# Altium integrated library Atmel Microcontroller 32-Bit ARM.IntLib: 116 symbols (part 10 of 10)
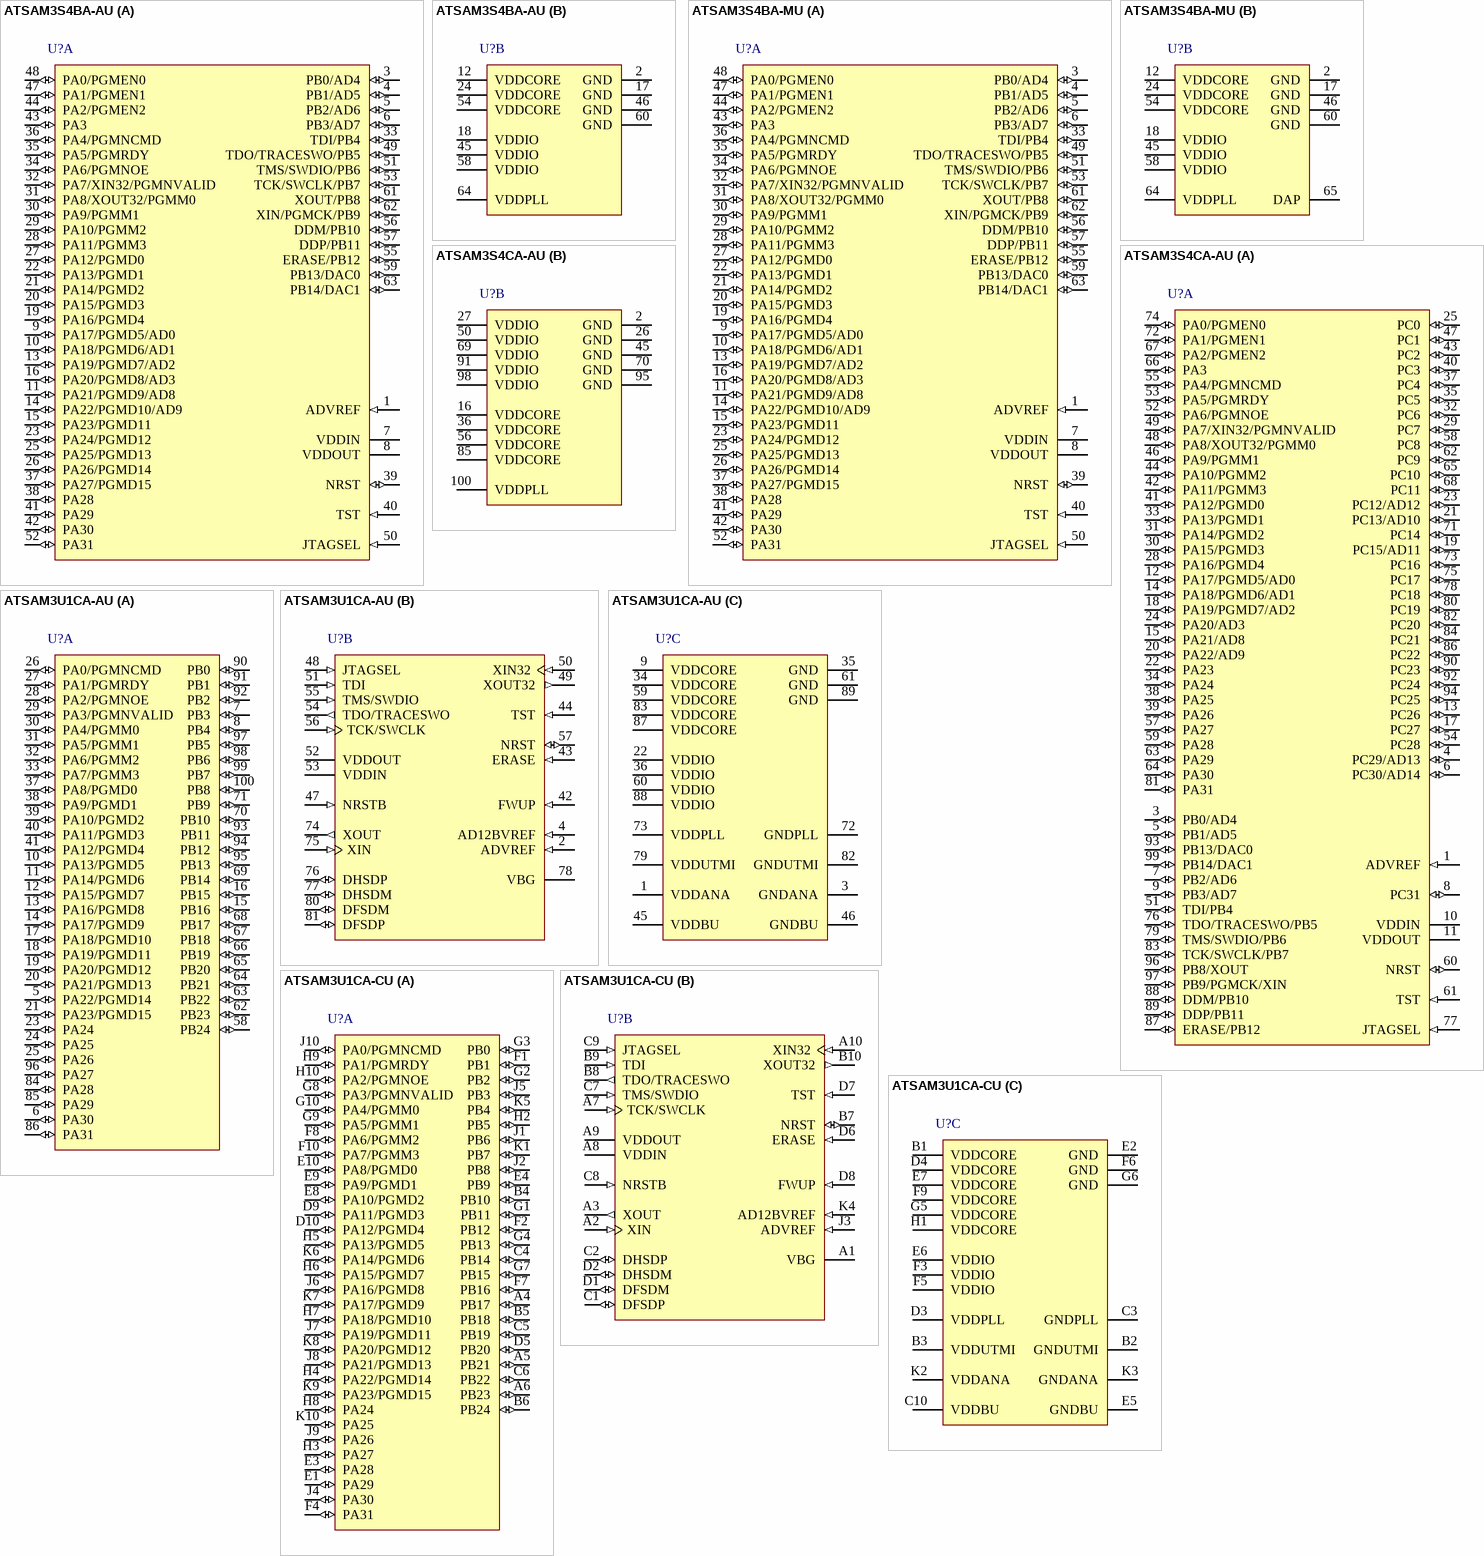
[diagram p61: symbols ATSAM3S4BA-AU to ATSAM3U1CA-CU]

## ATSAM3U1CA-CU
designator U?
AT91 ARM Cortex-M3 32-bit Microcontroller, 64KB Flash, 20KB SRAM, 57 User I/Os, 3USARTs, 100-Pin TFBGA, Industrial Grade (-40°C to 85°C), Pb-Free; Published: 20-Sep-2010; DatasheetVersion: revC, Apr-2010; PackageVersion: 2004; PackageReference: TFBGA100; Publisher: Altium Limited; PackageDescription: 100-Ball Thin Fine Ball Grid Array, 9 x 9 x1.1 mm Body, 0.80 mm Pitch; Supplier 1: Digi-Key; Supplier Part Number 1: ATSAM3U1CA-CU-ND; Supplier 2: Mouser; Supplier Part Number 2: 556-ATSAM3U1CA-CU; ComponentLink1Description: Manufacturer Link; ComponentLink1URL: http://www.atmel.com/products/AT91/default.asp?; ComponentLink2Description: SAM3U Series Datasheet; ComponentLink2URL: http://www.atmel.com/dyn/resources/prod_documents/doc6430.pdf; ComponentLink3Description: SAM3U Series Summary; ComponentLink3URL: http://www.atmel.com/dyn/resources/prod_documents/6430s.pdf; ComponentLink4Description: Atmel.com Home; ComponentLink4URL: http://www.atmel.com
footprint TFBGA100 (BGA, 100-Leads, Body 9x9mm, Pitch 0.8mm)
part A pins: A4 PB17 (io), A5 PB21 (io), A6 PB23 (io), B4 PB10 (io), B5 PB18 (io), B6 PB24 (io), C4 PB14 (io), C5 PB19 (io), C6 PB22 (io), D5 PB20 (io), D9 PA11/PGMD3 (io), D10 PA12/PGMD4 (io), E1 PA29 (io), E3 PA28 (io), E4 PB9 (io), E8 PA10/PGMD2 (io), E9 PA9/PGMD1 (io), E10 PA8/PGMD0 (io), F1 PB1 (io), F2 PB12 (io), F4 PA31 (io), F7 PB16 (io), F8 PA6/PGMM2 (io), F10 PA7/PGMM3 (io), G1 PB11 (io), G2 PB2 (io), G3 PB0 (io), G4 PB13 (io), G7 PB15 (io), G8 PA3/PGMNVALID (io), G9 PA5/PGMM1 (io), G10 PA4/PGMM0 (io), H2 PB5 (io), H3 PA27 (io), H4 PA22/PGMD14 (io), H5 PA13/PGMD5 (io), H6 PA15/PGMD7 (io), H7 PA18/PGMD10 (io), H8 PA24 (io), H9 PA1/PGMRDY (io), H10 PA2/PGMNOE (io), J1 PB6 (io), J2 PB8 (io), J4 PA30 (io), J5 PB3 (io), J6 PA16/PGMD8 (io), J7 PA19/PGMD11 (io), J8 PA21/PGMD13 (io), J9 PA26 (io), J10 PA0/PGMNCMD (io), K1 PB7 (io), K5 PB4 (io), K6 PA14/PGMD6 (io), K7 PA17/PGMD9 (io), K8 PA20/PGMD12 (io), K9 PA23/PGMD15 (io), K10 PA25 (io)
part B pins: A1 VBG, A2 XIN (in), A3 XOUT (out), A7 TCK/SWCLK (in), A8 VDDIN (power), A9 VDDOUT (power), A10 XIN32 (in), B7 NRST (io), B8 TDO/TRACESWO (out), B9 TDI (in), B10 XOUT32 (out), C1 DFSDP (io), C2 DHSDP (io), C7 TMS/SWDIO (in), C8 NRSTB (in), C9 JTAGSEL (in), D1 DFSDM (io), D2 DHSDM (io), D6 ERASE (in), D7 TST (in), D8 FWUP (in), J3 ADVREF (in), K4 AD12BVREF (in)
part C pins: B1 VDDCORE (power), B2 GNDUTMI (power), B3 VDDUTMI (power), C3 GNDPLL (power), C10 VDDBU (power), D3 VDDPLL (power), D4 VDDCORE (power), E2 GND (power), E5 GNDBU (power), E6 VDDIO (power), E7 VDDCORE (power), F3 VDDIO (power), F5 VDDIO (power), F6 GND (power), F9 VDDCORE (power), G5 VDDCORE (power), G6 GND (power), H1 VDDCORE (power), K2 VDDANA (power), K3 GNDANA (power)

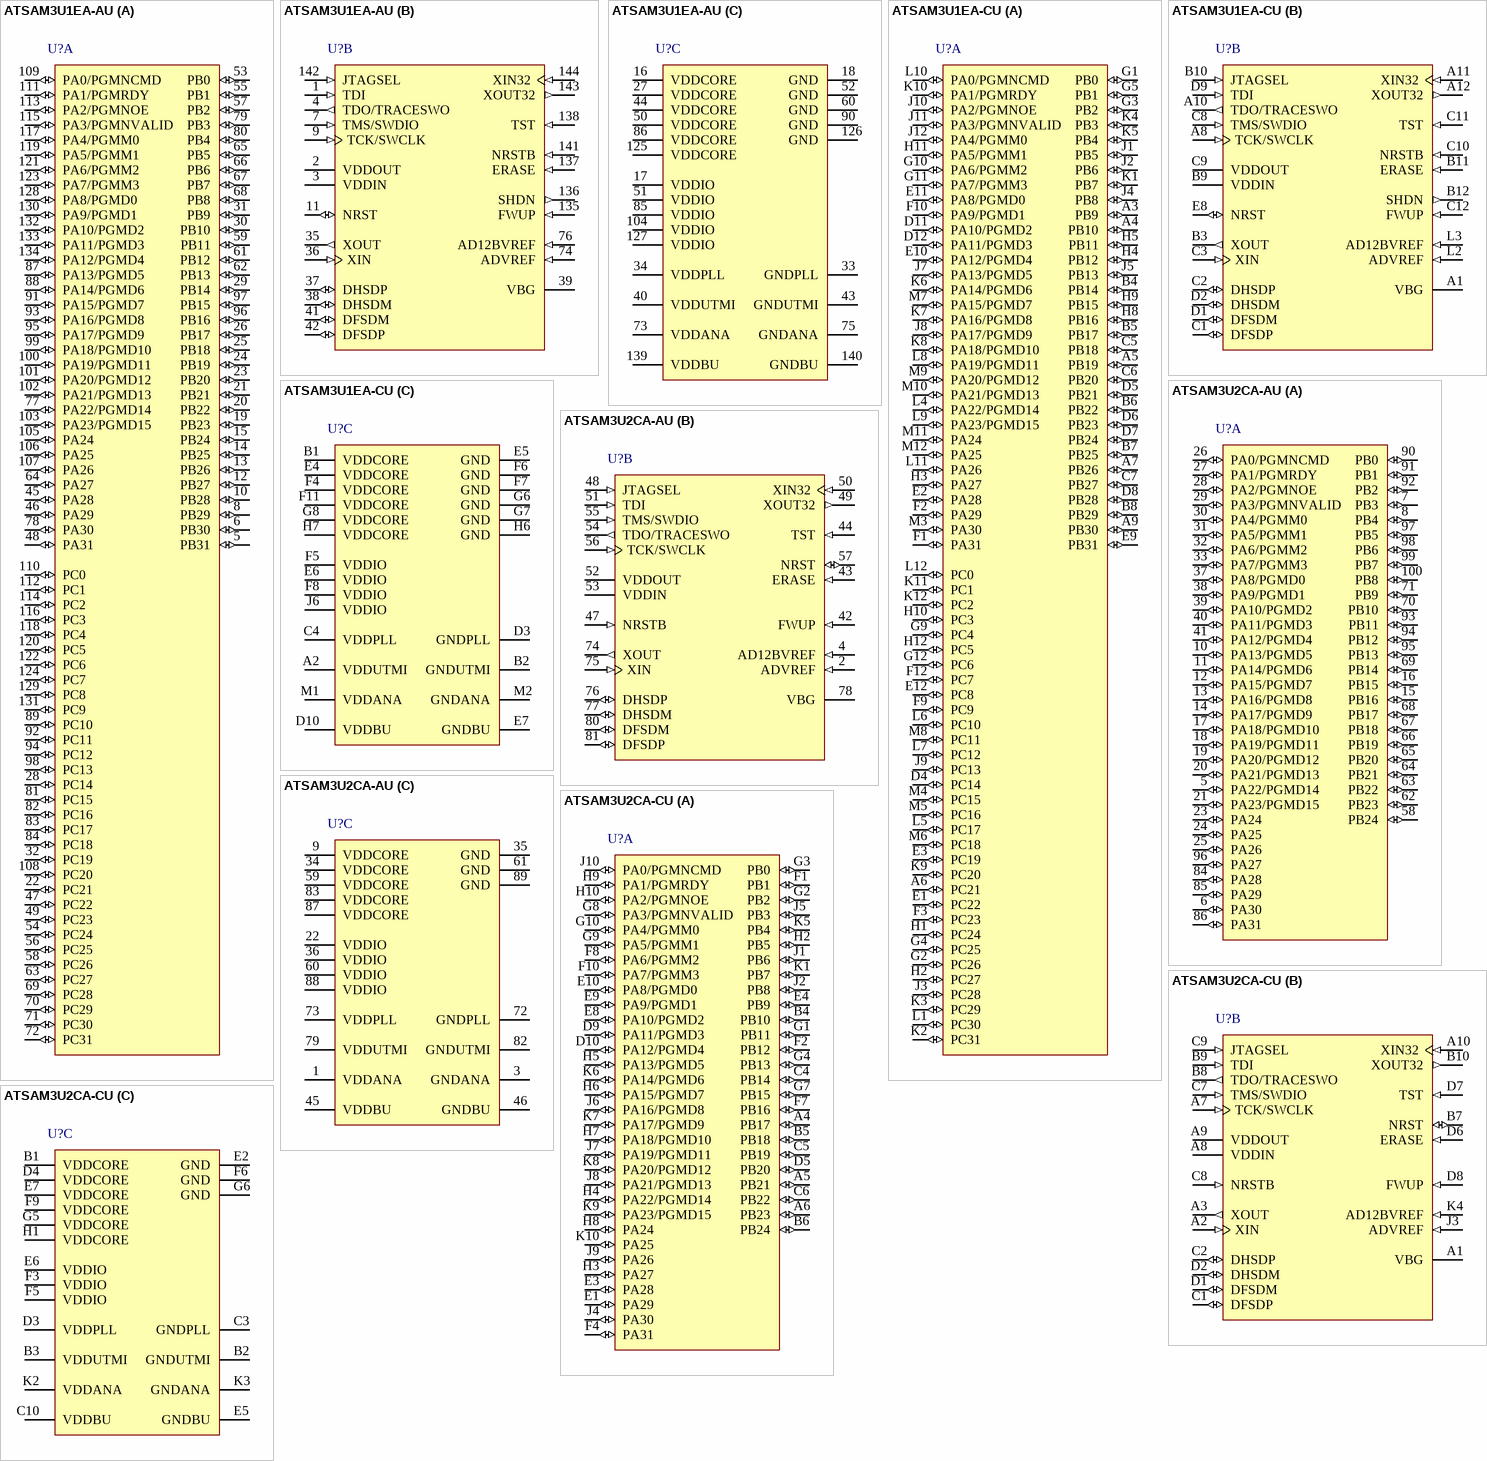
[diagram p50: symbols ATSAM3U1EA-AU to ATSAM3U2CA-CU]

## ATSAM3U1EA-AU
designator U?
AT91 ARM Cortex-M3 32-bit Microcontroller, 64KB Flash, 20KB SRAM, 96 User I/Os, 4USARTs, 144-Pin LQFP, Industrial Grade (-40°C to 85°C), Pb-Free; Published: 20-Sep-2010; DatasheetVersion: revC, Apr-2010; PackageVersion: rev.A, Nov-2001; PackageReference: 144L1; Publisher: Altium Limited; PackageDescription: 144-Pin Thin Quad Flat Pack 0.5 mm Pitch; Supplier 1: Digi-Key; Supplier Part Number 1: ATSAM3U1EA-AU-ND; Supplier 2: Mouser; Supplier Part Number 2: 556-ATSAM3U1EA-AU; Code_JEDEC: MS-026-BFB; ComponentLink1Description: Manufacturer Link; ComponentLink1URL: http://www.atmel.com/products/AT91/default.asp?; ComponentLink2Description: SAM3U Series Datasheet; ComponentLink2URL: http://www.atmel.com/dyn/resources/prod_documents/doc6430.pdf; ComponentLink3Description: SAM3U Series Summary; ComponentLink3URL: http://www.atmel.com/dyn/resources/prod_documents/6430s.pdf; ComponentLink4Description: Atmel.com Home; ComponentLink4URL: http://www.atmel.com
footprint 144L1_N (Thin QFP, 144-Leads, Body 20x20mm, Pitch 0.5mm, IPC Medium Density)
footprint 144L1_L (Thin QFP, 144-Leads, Body 20x20mm, Pitch 0.5mm, IPC High Density)
footprint 144L1_M (Thin QFP, 144-Leads, Body 20x20mm, Pitch 0.5mm, IPC Low Density)
part A pins: 5 PB31 (io), 6 PB30 (io), 8 PB29 (io), 10 PB28 (io), 12 PB27 (io), 13 PB26 (io), 14 PB25 (io), 15 PB24 (io), 19 PB23 (io), 20 PB22 (io), 21 PB21 (io), 22 PC21 (io), 23 PB20 (io), 24 PB19 (io), 25 PB18 (io), 26 PB17 (io), 28 PC14 (io), 29 PB14 (io), 30 PB10 (io), 31 PB9 (io), 32 PC19 (io), 45 PA28 (io), 46 PA29 (io), 47 PC22 (io), 48 PA31 (io), 49 PC23 (io), 53 PB0 (io), 54 PC24 (io), 55 PB1 (io), 56 PC25 (io), 57 PB2 (io), 58 PC26 (io), 59 PB11 (io), 61 PB12 (io), 62 PB13 (io), 63 PC27 (io), 64 PA27 (io), 65 PB5 (io), 66 PB6 (io), 67 PB7 (io), 68 PB8 (io), 69 PC28 (io), 70 PC29 (io), 71 PC30 (io), 72 PC31 (io), 77 PA22/PGMD14 (io), 78 PA30 (io), 79 PB3 (io), 80 PB4 (io), 81 PC15 (io), 82 PC16 (io), 83 PC17 (io), 84 PC18 (io), 87 PA13/PGMD5 (io), 88 PA14/PGMD6 (io), 89 PC10 (io), 91 PA15/PGMD7 (io), 92 PC11 (io), 93 PA16/PGMD8 (io), 94 PC12 (io), 95 PA17/PGMD9 (io), 96 PB16 (io), 97 PB15 (io), 98 PC13 (io), 99 PA18/PGMD10 (io), 100 PA19/PGMD11 (io), 101 PA20/PGMD12 (io), 102 PA21/PGMD13 (io), 103 PA23/PGMD15 (io), 105 PA24 (io), 106 PA25 (io), 107 PA26 (io), 108 PC20 (io), 109 PA0/PGMNCMD (io), 110 PC0 (io), 111 PA1/PGMRDY (io), 112 PC1 (io), 113 PA2/PGMNOE (io), 114 PC2 (io), 115 PA3/PGMNVALID (io), 116 PC3 (io), 117 PA4/PGMM0 (io), 118 PC4 (io), 119 PA5/PGMM1 (io), 120 PC5 (io), 121 PA6/PGMM2 (io), 122 PC6 (io), 123 PA7/PGMM3 (io), 124 PC7 (io), 128 PA8/PGMD0 (io), 129 PC8 (io), 130 PA9/PGMD1 (io), 131 PC9 (io), 132 PA10/PGMD2 (io), 133 PA11/PGMD3 (io), 134 PA12/PGMD4 (io)
part B pins: 1 TDI (in), 2 VDDOUT (power), 3 VDDIN (power), 4 TDO/TRACESWO (out), 7 TMS/SWDIO (in), 9 TCK/SWCLK (in), 11 NRST (io), 35 XOUT (out), 36 XIN (in), 37 DHSDP (io), 38 DHSDM (io), 39 VBG, 41 DFSDM (io), 42 DFSDP (io), 74 ADVREF (in), 76 AD12BVREF (in), 135 FWUP (in), 136 SHDN (out), 137 ERASE (in), 138 TST (in), 141 NRSTB (in), 142 JTAGSEL (in), 143 XOUT32 (out), 144 XIN32 (in)
part C pins: 16 VDDCORE (power), 17 VDDIO (power), 18 GND (power), 27 VDDCORE (power), 33 GNDPLL (power), 34 VDDPLL (power), 40 VDDUTMI (power), 43 GNDUTMI (power), 44 VDDCORE (power), 50 VDDCORE (power), 51 VDDIO (power), 52 GND (power), 60 GND (power), 73 VDDANA (power), 75 GNDANA (power), 85 VDDIO (power), 86 VDDCORE (power), 90 GND (power), 104 VDDIO (power), 125 VDDCORE (power), 126 GND (power), 127 VDDIO (power), 139 VDDBU (power), 140 GNDBU (power)

## ATSAM3U1EA-CU
designator U?
AT91 ARM Cortex-M3 32-bit Microcontroller, 64KB Flash, 20KB SRAM, 96 User I/Os, 4USARTs, 144-Pin LFBGA, Industrial Grade (-40°C to 85°C), Pb-Free; Published: 20-Sep-2010; DatasheetVersion: revC, Apr-2010; PackageVersion: 2008; PackageReference: LFBGA144; Publisher: Altium Limited; PackageDescription: 144-Ball Low Profile Fine Pitch BGA, 10 x 10 x 1.4 mm Body, 0.8 mm Pitch; Supplier 1: Digi-Key; Supplier Part Number 1: ATSAM3U1EA-CU-ND; Supplier 2: Mouser; Supplier Part Number 2: 556-ATSAM3U1EA-CU; Code_JEDEC: MS-026; ComponentLink1Description: Manufacturer Link; ComponentLink1URL: http://www.atmel.com/products/AT91/default.asp?; ComponentLink2Description: SAM3U Series Datasheet; ComponentLink2URL: http://www.atmel.com/dyn/resources/prod_documents/doc6430.pdf; ComponentLink3Description: SAM3U Series Summary; ComponentLink3URL: http://www.atmel.com/dyn/resources/prod_documents/6430s.pdf; ComponentLink4Description: Atmel.com Home; ComponentLink4URL: http://www.atmel.com
footprint LFBGA144 (BGA, 144-Leads, Body 10x10mm, Pitch 0.8mm)
part A pins: A3 PB9 (io), A4 PB10 (io), A5 PB19 (io), A6 PC21 (io), A7 PB26 (io), A9 PB30 (io), B4 PB14 (io), B5 PB17 (io), B6 PB22 (io), B7 PB25 (io), B8 PB29 (io), C5 PB18 (io), C6 PB20 (io), C7 PB27 (io), D4 PC14 (io), D5 PB21 (io), D6 PB23 (io), D7 PB24 (io), D8 PB28 (io), D11 PA10/PGMD2 (io), D12 PA11/PGMD3 (io), E1 PC22 (io), E2 PA28 (io), E3 PC19 (io), E9 PB31 (io), E10 PA12/PGMD4 (io), E11 PA8/PGMD0 (io), E12 PC8 (io), F1 PA31 (io), F2 PA29 (io), F3 PC23 (io), F9 PC9 (io), F10 PA9/PGMD1 (io), F12 PC7 (io), G1 PB0 (io), G2 PC26 (io), G3 PB2 (io), G4 PC25 (io), G5 PB1 (io), G9 PC4 (io), G10 PA6/PGMM2 (io), G11 PA7/PGMM3 (io), G12 PC6 (io), H1 PC24 (io), H2 PC27 (io), H3 PA27 (io), H4 PB12 (io), H5 PB11 (io), H8 PB16 (io), H9 PB15 (io), H10 PC3 (io), H11 PA5/PGMM1 (io), H12 PC5 (io), J1 PB5 (io), J2 PB6 (io), J3 PC28 (io), J4 PB8 (io), J5 PB13 (io), J7 PA13/PGMD5 (io), J8 PA17/PGMD9 (io), J9 PC13 (io), J10 PA2/PGMNOE (io), J11 PA3/PGMNVALID (io), J12 PA4/PGMM0 (io), K1 PB7 (io), K2 PC31 (io), K3 PC29 (io), K4 PB3 (io), K5 PB4 (io), K6 PA14/PGMD6 (io), K7 PA16/PGMD8 (io), K8 PA18/PGMD10 (io), K9 PC20 (io), K10 PA1/PGMRDY (io), K11 PC1 (io), K12 PC2 (io), L1 PC30 (io), L4 PA22/PGMD14 (io), L5 PC17 (io), L6 PC10 (io), L7 PC12 (io), L8 PA19/PGMD11 (io), L9 PA23/PGMD15 (io), L10 PA0/PGMNCMD (io), L11 PA26 (io), L12 PC0 (io), M3 PA30 (io), M4 PC15 (io), M5 PC16 (io), M6 PC18 (io), M7 PA15/PGMD7 (io), M8 PC11 (io), M9 PA20/PGMD12 (io), M10 PA21/PGMD13 (io), M11 PA24 (io), M12 PA25 (io)
part B pins: A1 VBG, A8 TCK/SWCLK (in), A10 TDO/TRACESWO (out), A11 XIN32 (in), A12 XOUT32 (out), B3 XOUT (out), B9 VDDIN (power), B10 JTAGSEL (in), B11 ERASE (in), B12 SHDN (out), C1 DFSDP (io), C2 DHSDP (io), C3 XIN (in), C8 TMS/SWDIO (in), C9 VDDOUT (power), C10 NRSTB (in), C11 TST (in), C12 FWUP (in), D1 DFSDM (io), D2 DHSDM (io), D9 TDI (in), E8 NRST (io), L2 ADVREF (in), L3 AD12BVREF (in)
part C pins: A2 VDDUTMI (power), B1 VDDCORE (power), B2 GNDUTMI (power), C4 VDDPLL (power), D3 GNDPLL (power), D10 VDDBU (power), E4 VDDCORE (power), E5 GND (power), E6 VDDIO (power), E7 GNDBU (power), F4 VDDCORE (power), F5 VDDIO (power), F6 GND (power), F7 GND (power), F8 VDDIO (power), F11 VDDCORE (power), G6 GND (power), G7 GND (power), G8 VDDCORE (power), H6 GND (power), H7 VDDCORE (power), J6 VDDIO (power), M1 VDDANA (power), M2 GNDANA (power)

## ATSAM3U2CA-AU
designator U?
AT91 ARM Cortex-M3 32-bit Microcontroller, 128KB Flash, 36KB SRAM, 57 User I/Os, 3USARTs, 100-Pin LQFP, Industrial Grade (-40°C to 85°C), Pb-Free; Published: 20-Sep-2010; DatasheetVersion: revC, Apr-2010; PackageVersion: Apr-2006; PackageReference: LQFP100; Publisher: Altium Limited; PackageDescription: 100-Pin Thin Quad Flat Pack 0.5 mm Pitch; Supplier 1: Digi-Key; Supplier Part Number 1: ATSAM3U2CA-AU-ND; Supplier 2: Mouser; Supplier Part Number 2: 556-ATSAM3U2CA-AU; Code_JEDEC: MS-026-BED; ComponentLink1Description: Manufacturer Link; ComponentLink1URL: http://www.atmel.com/products/AT91/default.asp?; ComponentLink2Description: SAM3U Series Datasheet; ComponentLink2URL: http://www.atmel.com/dyn/resources/prod_documents/doc6430.pdf; ComponentLink3Description: SAM3U Series Summary; ComponentLink3URL: http://www.atmel.com/dyn/resources/prod_documents/6430s.pdf; ComponentLink4Description: Atmel.com Home; ComponentLink4URL: http://www.atmel.com
footprint LQFP100_N (Thin QFP, 100-Leads, Body 14x14mm, Pitch 0.5mm, IPC Medium Density)
footprint LQFP100_L (Thin QFP, 100-Leads, Body 14x14mm, Pitch 0.5mm, IPC High Density)
footprint LQFP100_M (Thin QFP, 100-Leads, Body 14x14mm, Pitch 0.5mm, IPC Low Density)
part A pins: 5 PA22/PGMD14 (io), 6 PA30 (io), 7 PB3 (io), 8 PB4 (io), 10 PA13/PGMD5 (io), 11 PA14/PGMD6 (io), 12 PA15/PGMD7 (io), 13 PA16/PGMD8 (io), 14 PA17/PGMD9 (io), 15 PB16 (io), 16 PB15 (io), 17 PA18/PGMD10 (io), 18 PA19/PGMD11 (io), 19 PA20/PGMD12 (io), 20 PA21/PGMD13 (io), 21 PA23/PGMD15 (io), 23 PA24 (io), 24 PA25 (io), 25 PA26 (io), 26 PA0/PGMNCMD (io), 27 PA1/PGMRDY (io), 28 PA2/PGMNOE (io), 29 PA3/PGMNVALID (io), 30 PA4/PGMM0 (io), 31 PA5/PGMM1 (io), 32 PA6/PGMM2 (io), 33 PA7/PGMM3 (io), 37 PA8/PGMD0 (io), 38 PA9/PGMD1 (io), 39 PA10/PGMD2 (io), 40 PA11/PGMD3 (io), 41 PA12/PGMD4 (io), 58 PB24 (io), 62 PB23 (io), 63 PB22 (io), 64 PB21 (io), 65 PB20 (io), 66 PB19 (io), 67 PB18 (io), 68 PB17 (io), 69 PB14 (io), 70 PB10 (io), 71 PB9 (io), 84 PA28 (io), 85 PA29 (io), 86 PA31 (io), 90 PB0 (io), 91 PB1 (io), 92 PB2 (io), 93 PB11 (io), 94 PB12 (io), 95 PB13 (io), 96 PA27 (io), 97 PB5 (io), 98 PB6 (io), 99 PB7 (io), 100 PB8 (io)
part B pins: 2 ADVREF (in), 4 AD12BVREF (in), 42 FWUP (in), 43 ERASE (in), 44 TST (in), 47 NRSTB (in), 48 JTAGSEL (in), 49 XOUT32 (out), 50 XIN32 (in), 51 TDI (in), 52 VDDOUT (power), 53 VDDIN (power), 54 TDO/TRACESWO (out), 55 TMS/SWDIO (in), 56 TCK/SWCLK (in), 57 NRST (io), 74 XOUT (out), 75 XIN (in), 76 DHSDP (io), 77 DHSDM (io), 78 VBG, 80 DFSDM (io), 81 DFSDP (io)
part C pins: 1 VDDANA (power), 3 GNDANA (power), 9 VDDCORE (power), 22 VDDIO (power), 34 VDDCORE (power), 35 GND (power), 36 VDDIO (power), 45 VDDBU (power), 46 GNDBU (power), 59 VDDCORE (power), 60 VDDIO (power), 61 GND (power), 72 GNDPLL (power), 73 VDDPLL (power), 79 VDDUTMI (power), 82 GNDUTMI (power), 83 VDDCORE (power), 87 VDDCORE (power), 88 VDDIO (power), 89 GND (power)

## ATSAM3U2CA-CU
designator U?
AT91 ARM Cortex-M3 32-bit Microcontroller, 128KB Flash, 36KB SRAM, 57 User I/Os, 3USARTs, 100-Pin TFBGA, Industrial Grade (-40°C to 85°C), Pb-Free; Published: 20-Sep-2010; DatasheetVersion: revC, Apr-2010; PackageVersion: 2004; PackageReference: TFBGA100; Publisher: Altium Limited; PackageDescription: 100-Ball Thin Fine Ball Grid Array, 9 x 9 x1.1 mm Body, 0.80 mm Pitch; Supplier 1: Digi-Key; Supplier Part Number 1: ATSAM3U2CA-CU-ND; Supplier 2: Mouser; Supplier Part Number 2: 556-ATSAM3U2CA-CU; ComponentLink1Description: Manufacturer Link; ComponentLink1URL: http://www.atmel.com/products/AT91/default.asp?; ComponentLink2Description: SAM3U Series Datasheet; ComponentLink2URL: http://www.atmel.com/dyn/resources/prod_documents/doc6430.pdf; ComponentLink3Description: SAM3U Series Summary; ComponentLink3URL: http://www.atmel.com/dyn/resources/prod_documents/6430s.pdf; ComponentLink4Description: Atmel.com Home; ComponentLink4URL: http://www.atmel.com
footprint TFBGA100 (BGA, 100-Leads, Body 9x9mm, Pitch 0.8mm)
part A pins: A4 PB17 (io), A5 PB21 (io), A6 PB23 (io), B4 PB10 (io), B5 PB18 (io), B6 PB24 (io), C4 PB14 (io), C5 PB19 (io), C6 PB22 (io), D5 PB20 (io), D9 PA11/PGMD3 (io), D10 PA12/PGMD4 (io), E1 PA29 (io), E3 PA28 (io), E4 PB9 (io), E8 PA10/PGMD2 (io), E9 PA9/PGMD1 (io), E10 PA8/PGMD0 (io), F1 PB1 (io), F2 PB12 (io), F4 PA31 (io), F7 PB16 (io), F8 PA6/PGMM2 (io), F10 PA7/PGMM3 (io), G1 PB11 (io), G2 PB2 (io), G3 PB0 (io), G4 PB13 (io), G7 PB15 (io), G8 PA3/PGMNVALID (io), G9 PA5/PGMM1 (io), G10 PA4/PGMM0 (io), H2 PB5 (io), H3 PA27 (io), H4 PA22/PGMD14 (io), H5 PA13/PGMD5 (io), H6 PA15/PGMD7 (io), H7 PA18/PGMD10 (io), H8 PA24 (io), H9 PA1/PGMRDY (io), H10 PA2/PGMNOE (io), J1 PB6 (io), J2 PB8 (io), J4 PA30 (io), J5 PB3 (io), J6 PA16/PGMD8 (io), J7 PA19/PGMD11 (io), J8 PA21/PGMD13 (io), J9 PA26 (io), J10 PA0/PGMNCMD (io), K1 PB7 (io), K5 PB4 (io), K6 PA14/PGMD6 (io), K7 PA17/PGMD9 (io), K8 PA20/PGMD12 (io), K9 PA23/PGMD15 (io), K10 PA25 (io)
part B pins: A1 VBG, A2 XIN (in), A3 XOUT (out), A7 TCK/SWCLK (in), A8 VDDIN (power), A9 VDDOUT (power), A10 XIN32 (in), B7 NRST (io), B8 TDO/TRACESWO (out), B9 TDI (in), B10 XOUT32 (out), C1 DFSDP (io), C2 DHSDP (io), C7 TMS/SWDIO (in), C8 NRSTB (in), C9 JTAGSEL (in), D1 DFSDM (io), D2 DHSDM (io), D6 ERASE (in), D7 TST (in), D8 FWUP (in), J3 ADVREF (in), K4 AD12BVREF (in)
part C pins: B1 VDDCORE (power), B2 GNDUTMI (power), B3 VDDUTMI (power), C3 GNDPLL (power), C10 VDDBU (power), D3 VDDPLL (power), D4 VDDCORE (power), E2 GND (power), E5 GNDBU (power), E6 VDDIO (power), E7 VDDCORE (power), F3 VDDIO (power), F5 VDDIO (power), F6 GND (power), F9 VDDCORE (power), G5 VDDCORE (power), G6 GND (power), H1 VDDCORE (power), K2 VDDANA (power), K3 GNDANA (power)

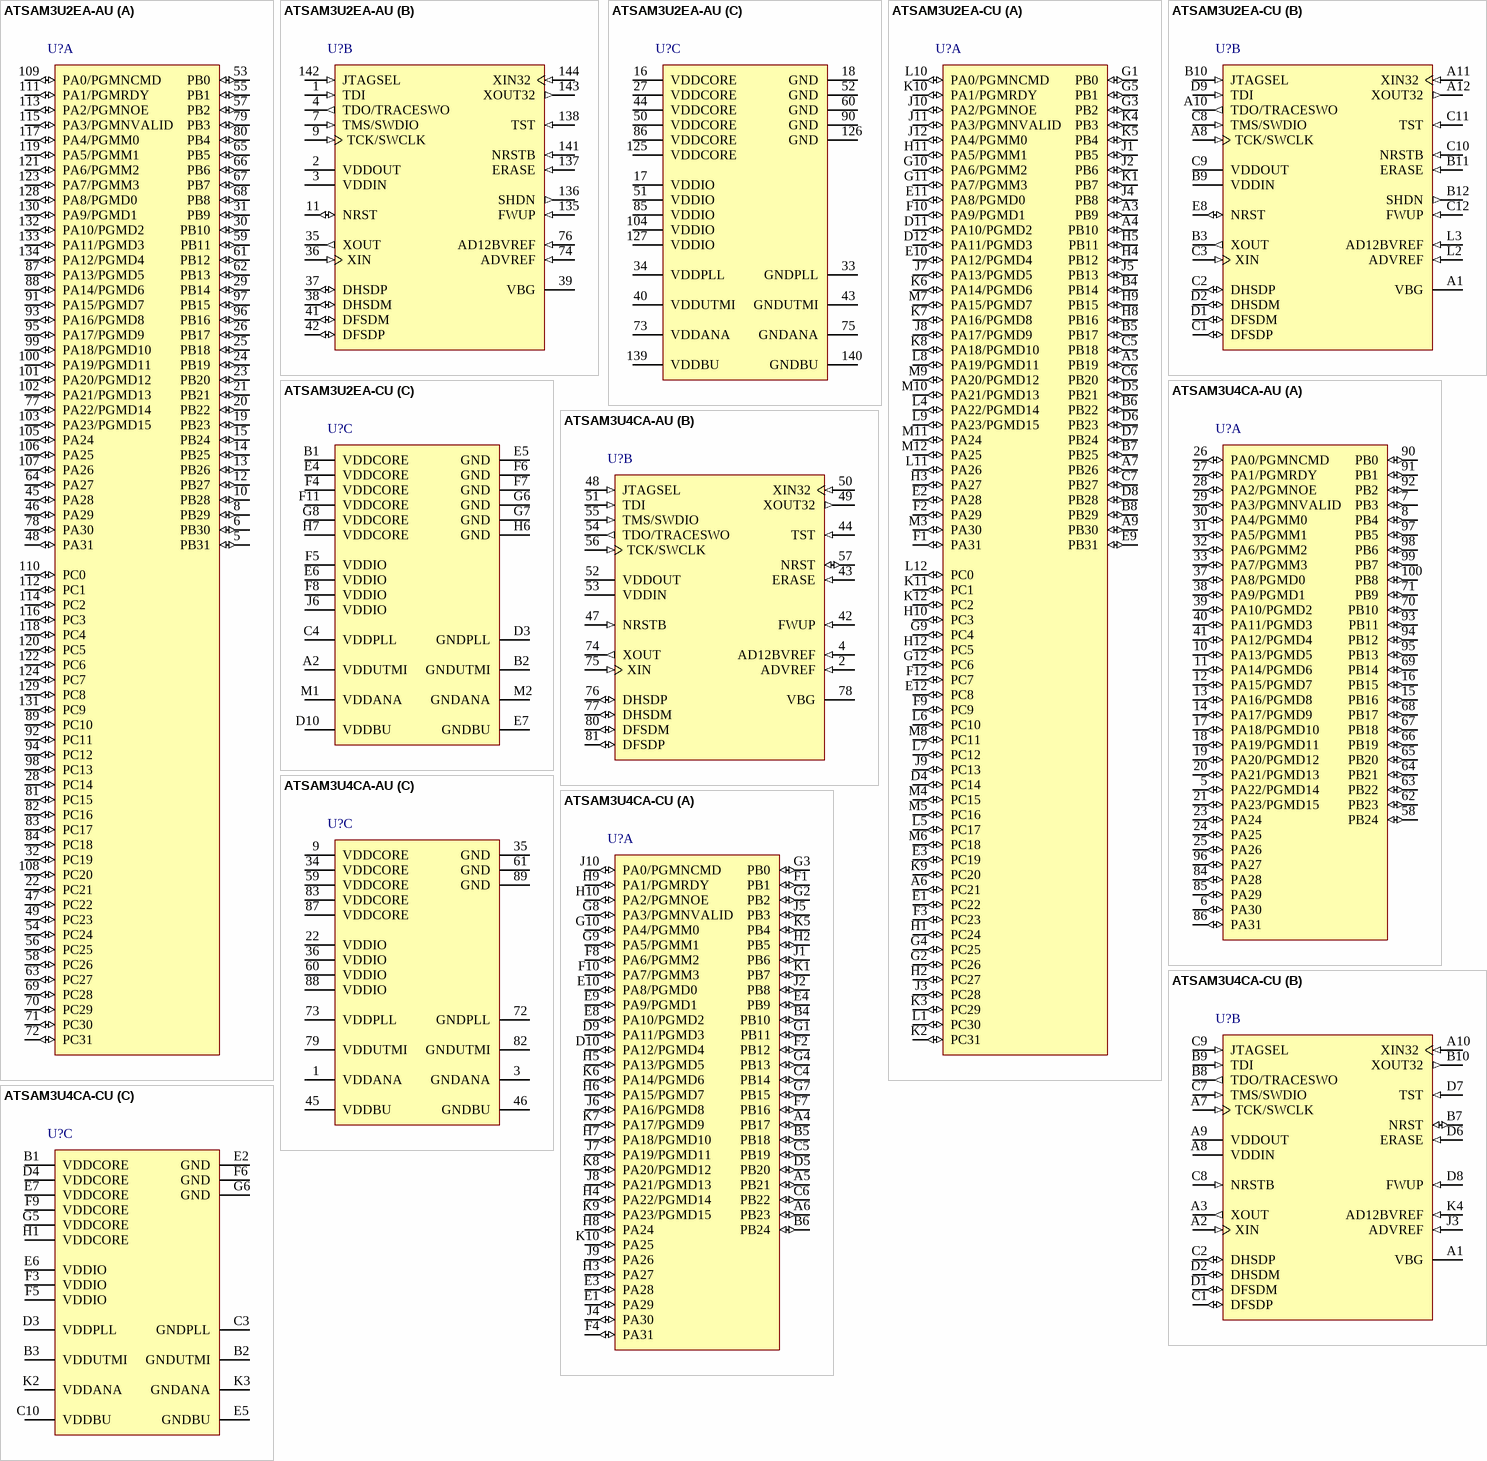
[diagram p51: symbols ATSAM3U2EA-AU to ATSAM3U4CA-CU]

## ATSAM3U2EA-AU
designator U?
AT91 ARM Cortex-M3 32-bit Microcontroller, 128KB Flash, 36KB SRAM, 96 User I/Os, 4USARTs, 144-Pin LQFP, Industrial Grade (-40°C to 85°C), Pb-Free; Published: 20-Sep-2010; DatasheetVersion: revC, Apr-2010; PackageVersion: rev.A, Nov-2001; PackageReference: 144L1; Publisher: Altium Limited; PackageDescription: 144-Pin Thin Quad Flat Pack 0.5 mm Pitch; Supplier 1: Digi-Key; Supplier Part Number 1: ATSAM3U2EA-AU-ND; Supplier 2: Mouser; Supplier Part Number 2: 556-ATSAM3U2EA-AU; Code_JEDEC: MS-026-BFB; ComponentLink1Description: Manufacturer Link; ComponentLink1URL: http://www.atmel.com/products/AT91/default.asp?; ComponentLink2Description: SAM3U Series Datasheet; ComponentLink2URL: http://www.atmel.com/dyn/resources/prod_documents/doc6430.pdf; ComponentLink3Description: SAM3U Series Summary; ComponentLink3URL: http://www.atmel.com/dyn/resources/prod_documents/6430s.pdf; ComponentLink4Description: Atmel.com Home; ComponentLink4URL: http://www.atmel.com
footprint 144L1_N (Thin QFP, 144-Leads, Body 20x20mm, Pitch 0.5mm, IPC Medium Density)
footprint 144L1_L (Thin QFP, 144-Leads, Body 20x20mm, Pitch 0.5mm, IPC High Density)
footprint 144L1_M (Thin QFP, 144-Leads, Body 20x20mm, Pitch 0.5mm, IPC Low Density)
part A pins: 5 PB31 (io), 6 PB30 (io), 8 PB29 (io), 10 PB28 (io), 12 PB27 (io), 13 PB26 (io), 14 PB25 (io), 15 PB24 (io), 19 PB23 (io), 20 PB22 (io), 21 PB21 (io), 22 PC21 (io), 23 PB20 (io), 24 PB19 (io), 25 PB18 (io), 26 PB17 (io), 28 PC14 (io), 29 PB14 (io), 30 PB10 (io), 31 PB9 (io), 32 PC19 (io), 45 PA28 (io), 46 PA29 (io), 47 PC22 (io), 48 PA31 (io), 49 PC23 (io), 53 PB0 (io), 54 PC24 (io), 55 PB1 (io), 56 PC25 (io), 57 PB2 (io), 58 PC26 (io), 59 PB11 (io), 61 PB12 (io), 62 PB13 (io), 63 PC27 (io), 64 PA27 (io), 65 PB5 (io), 66 PB6 (io), 67 PB7 (io), 68 PB8 (io), 69 PC28 (io), 70 PC29 (io), 71 PC30 (io), 72 PC31 (io), 77 PA22/PGMD14 (io), 78 PA30 (io), 79 PB3 (io), 80 PB4 (io), 81 PC15 (io), 82 PC16 (io), 83 PC17 (io), 84 PC18 (io), 87 PA13/PGMD5 (io), 88 PA14/PGMD6 (io), 89 PC10 (io), 91 PA15/PGMD7 (io), 92 PC11 (io), 93 PA16/PGMD8 (io), 94 PC12 (io), 95 PA17/PGMD9 (io), 96 PB16 (io), 97 PB15 (io), 98 PC13 (io), 99 PA18/PGMD10 (io), 100 PA19/PGMD11 (io), 101 PA20/PGMD12 (io), 102 PA21/PGMD13 (io), 103 PA23/PGMD15 (io), 105 PA24 (io), 106 PA25 (io), 107 PA26 (io), 108 PC20 (io), 109 PA0/PGMNCMD (io), 110 PC0 (io), 111 PA1/PGMRDY (io), 112 PC1 (io), 113 PA2/PGMNOE (io), 114 PC2 (io), 115 PA3/PGMNVALID (io), 116 PC3 (io), 117 PA4/PGMM0 (io), 118 PC4 (io), 119 PA5/PGMM1 (io), 120 PC5 (io), 121 PA6/PGMM2 (io), 122 PC6 (io), 123 PA7/PGMM3 (io), 124 PC7 (io), 128 PA8/PGMD0 (io), 129 PC8 (io), 130 PA9/PGMD1 (io), 131 PC9 (io), 132 PA10/PGMD2 (io), 133 PA11/PGMD3 (io), 134 PA12/PGMD4 (io)
part B pins: 1 TDI (in), 2 VDDOUT (power), 3 VDDIN (power), 4 TDO/TRACESWO (out), 7 TMS/SWDIO (in), 9 TCK/SWCLK (in), 11 NRST (io), 35 XOUT (out), 36 XIN (in), 37 DHSDP (io), 38 DHSDM (io), 39 VBG, 41 DFSDM (io), 42 DFSDP (io), 74 ADVREF (in), 76 AD12BVREF (in), 135 FWUP (in), 136 SHDN (out), 137 ERASE (in), 138 TST (in), 141 NRSTB (in), 142 JTAGSEL (in), 143 XOUT32 (out), 144 XIN32 (in)
part C pins: 16 VDDCORE (power), 17 VDDIO (power), 18 GND (power), 27 VDDCORE (power), 33 GNDPLL (power), 34 VDDPLL (power), 40 VDDUTMI (power), 43 GNDUTMI (power), 44 VDDCORE (power), 50 VDDCORE (power), 51 VDDIO (power), 52 GND (power), 60 GND (power), 73 VDDANA (power), 75 GNDANA (power), 85 VDDIO (power), 86 VDDCORE (power), 90 GND (power), 104 VDDIO (power), 125 VDDCORE (power), 126 GND (power), 127 VDDIO (power), 139 VDDBU (power), 140 GNDBU (power)

## ATSAM3U2EA-CU
designator U?
AT91 ARM Cortex-M3 32-bit Microcontroller, 128KB Flash, 36KB SRAM, 96 User I/Os, 4USARTs, 144-Pin LFBGA, Industrial Grade (-40°C to 85°C), Pb-Free; Published: 20-Sep-2010; DatasheetVersion: revC, Apr-2010; PackageVersion: 2008; PackageReference: LFBGA144; Publisher: Altium Limited; PackageDescription: 144-Ball Low Profile Fine Pitch BGA, 10 x 10 x 1.4 mm Body, 0.8 mm Pitch; Supplier 1: Digi-Key; Supplier Part Number 1: ATSAM3U2EA-CU-ND; Supplier 2: Mouser; Supplier Part Number 2: 556-ATSAM3U2EA-CU; Code_JEDEC: MS-026; ComponentLink1Description: Manufacturer Link; ComponentLink1URL: http://www.atmel.com/products/AT91/default.asp?; ComponentLink2Description: SAM3U Series Datasheet; ComponentLink2URL: http://www.atmel.com/dyn/resources/prod_documents/doc6430.pdf; ComponentLink3Description: SAM3U Series Summary; ComponentLink3URL: http://www.atmel.com/dyn/resources/prod_documents/6430s.pdf; ComponentLink4Description: Atmel.com Home; ComponentLink4URL: http://www.atmel.com
footprint LFBGA144 (BGA, 144-Leads, Body 10x10mm, Pitch 0.8mm)
part A pins: A3 PB9 (io), A4 PB10 (io), A5 PB19 (io), A6 PC21 (io), A7 PB26 (io), A9 PB30 (io), B4 PB14 (io), B5 PB17 (io), B6 PB22 (io), B7 PB25 (io), B8 PB29 (io), C5 PB18 (io), C6 PB20 (io), C7 PB27 (io), D4 PC14 (io), D5 PB21 (io), D6 PB23 (io), D7 PB24 (io), D8 PB28 (io), D11 PA10/PGMD2 (io), D12 PA11/PGMD3 (io), E1 PC22 (io), E2 PA28 (io), E3 PC19 (io), E9 PB31 (io), E10 PA12/PGMD4 (io), E11 PA8/PGMD0 (io), E12 PC8 (io), F1 PA31 (io), F2 PA29 (io), F3 PC23 (io), F9 PC9 (io), F10 PA9/PGMD1 (io), F12 PC7 (io), G1 PB0 (io), G2 PC26 (io), G3 PB2 (io), G4 PC25 (io), G5 PB1 (io), G9 PC4 (io), G10 PA6/PGMM2 (io), G11 PA7/PGMM3 (io), G12 PC6 (io), H1 PC24 (io), H2 PC27 (io), H3 PA27 (io), H4 PB12 (io), H5 PB11 (io), H8 PB16 (io), H9 PB15 (io), H10 PC3 (io), H11 PA5/PGMM1 (io), H12 PC5 (io), J1 PB5 (io), J2 PB6 (io), J3 PC28 (io), J4 PB8 (io), J5 PB13 (io), J7 PA13/PGMD5 (io), J8 PA17/PGMD9 (io), J9 PC13 (io), J10 PA2/PGMNOE (io), J11 PA3/PGMNVALID (io), J12 PA4/PGMM0 (io), K1 PB7 (io), K2 PC31 (io), K3 PC29 (io), K4 PB3 (io), K5 PB4 (io), K6 PA14/PGMD6 (io), K7 PA16/PGMD8 (io), K8 PA18/PGMD10 (io), K9 PC20 (io), K10 PA1/PGMRDY (io), K11 PC1 (io), K12 PC2 (io), L1 PC30 (io), L4 PA22/PGMD14 (io), L5 PC17 (io), L6 PC10 (io), L7 PC12 (io), L8 PA19/PGMD11 (io), L9 PA23/PGMD15 (io), L10 PA0/PGMNCMD (io), L11 PA26 (io), L12 PC0 (io), M3 PA30 (io), M4 PC15 (io), M5 PC16 (io), M6 PC18 (io), M7 PA15/PGMD7 (io), M8 PC11 (io), M9 PA20/PGMD12 (io), M10 PA21/PGMD13 (io), M11 PA24 (io), M12 PA25 (io)
part B pins: A1 VBG, A8 TCK/SWCLK (in), A10 TDO/TRACESWO (out), A11 XIN32 (in), A12 XOUT32 (out), B3 XOUT (out), B9 VDDIN (power), B10 JTAGSEL (in), B11 ERASE (in), B12 SHDN (out), C1 DFSDP (io), C2 DHSDP (io), C3 XIN (in), C8 TMS/SWDIO (in), C9 VDDOUT (power), C10 NRSTB (in), C11 TST (in), C12 FWUP (in), D1 DFSDM (io), D2 DHSDM (io), D9 TDI (in), E8 NRST (io), L2 ADVREF (in), L3 AD12BVREF (in)
part C pins: A2 VDDUTMI (power), B1 VDDCORE (power), B2 GNDUTMI (power), C4 VDDPLL (power), D3 GNDPLL (power), D10 VDDBU (power), E4 VDDCORE (power), E5 GND (power), E6 VDDIO (power), E7 GNDBU (power), F4 VDDCORE (power), F5 VDDIO (power), F6 GND (power), F7 GND (power), F8 VDDIO (power), F11 VDDCORE (power), G6 GND (power), G7 GND (power), G8 VDDCORE (power), H6 GND (power), H7 VDDCORE (power), J6 VDDIO (power), M1 VDDANA (power), M2 GNDANA (power)

## ATSAM3U4CA-AU
designator U?
AT91 ARM Cortex-M3 32-bit Microcontroller, 2x128KB Flash, 52KB SRAM, 57 User I/Os, 3USARTs, 100-Pin LQFP, Industrial Grade (-40°C to 85°C), Pb-Free; Published: 20-Sep-2010; DatasheetVersion: revC, Apr-2010; PackageVersion: Apr-2006; PackageReference: LQFP100; Publisher: Altium Limited; PackageDescription: 100-Pin Thin Quad Flat Pack 0.5 mm Pitch; Supplier 1: Digi-Key; Supplier Part Number 1: ATSAM3U4CA-AU-ND; Supplier 2: Mouser; Supplier Part Number 2: 556-ATSAM3U4CA-AU; Code_JEDEC: MS-026-BED; ComponentLink1Description: Manufacturer Link; ComponentLink1URL: http://www.atmel.com/products/AT91/default.asp?; ComponentLink2Description: SAM3U Series Datasheet; ComponentLink2URL: http://www.atmel.com/dyn/resources/prod_documents/doc6430.pdf; ComponentLink3Description: SAM3U Series Summary; ComponentLink3URL: http://www.atmel.com/dyn/resources/prod_documents/6430s.pdf; ComponentLink4Description: Atmel.com Home; ComponentLink4URL: http://www.atmel.com
footprint LQFP100_N (Thin QFP, 100-Leads, Body 14x14mm, Pitch 0.5mm, IPC Medium Density)
footprint LQFP100_L (Thin QFP, 100-Leads, Body 14x14mm, Pitch 0.5mm, IPC High Density)
footprint LQFP100_M (Thin QFP, 100-Leads, Body 14x14mm, Pitch 0.5mm, IPC Low Density)
part A pins: 5 PA22/PGMD14 (io), 6 PA30 (io), 7 PB3 (io), 8 PB4 (io), 10 PA13/PGMD5 (io), 11 PA14/PGMD6 (io), 12 PA15/PGMD7 (io), 13 PA16/PGMD8 (io), 14 PA17/PGMD9 (io), 15 PB16 (io), 16 PB15 (io), 17 PA18/PGMD10 (io), 18 PA19/PGMD11 (io), 19 PA20/PGMD12 (io), 20 PA21/PGMD13 (io), 21 PA23/PGMD15 (io), 23 PA24 (io), 24 PA25 (io), 25 PA26 (io), 26 PA0/PGMNCMD (io), 27 PA1/PGMRDY (io), 28 PA2/PGMNOE (io), 29 PA3/PGMNVALID (io), 30 PA4/PGMM0 (io), 31 PA5/PGMM1 (io), 32 PA6/PGMM2 (io), 33 PA7/PGMM3 (io), 37 PA8/PGMD0 (io), 38 PA9/PGMD1 (io), 39 PA10/PGMD2 (io), 40 PA11/PGMD3 (io), 41 PA12/PGMD4 (io), 58 PB24 (io), 62 PB23 (io), 63 PB22 (io), 64 PB21 (io), 65 PB20 (io), 66 PB19 (io), 67 PB18 (io), 68 PB17 (io), 69 PB14 (io), 70 PB10 (io), 71 PB9 (io), 84 PA28 (io), 85 PA29 (io), 86 PA31 (io), 90 PB0 (io), 91 PB1 (io), 92 PB2 (io), 93 PB11 (io), 94 PB12 (io), 95 PB13 (io), 96 PA27 (io), 97 PB5 (io), 98 PB6 (io), 99 PB7 (io), 100 PB8 (io)
part B pins: 2 ADVREF (in), 4 AD12BVREF (in), 42 FWUP (in), 43 ERASE (in), 44 TST (in), 47 NRSTB (in), 48 JTAGSEL (in), 49 XOUT32 (out), 50 XIN32 (in), 51 TDI (in), 52 VDDOUT (power), 53 VDDIN (power), 54 TDO/TRACESWO (out), 55 TMS/SWDIO (in), 56 TCK/SWCLK (in), 57 NRST (io), 74 XOUT (out), 75 XIN (in), 76 DHSDP (io), 77 DHSDM (io), 78 VBG, 80 DFSDM (io), 81 DFSDP (io)
part C pins: 1 VDDANA (power), 3 GNDANA (power), 9 VDDCORE (power), 22 VDDIO (power), 34 VDDCORE (power), 35 GND (power), 36 VDDIO (power), 45 VDDBU (power), 46 GNDBU (power), 59 VDDCORE (power), 60 VDDIO (power), 61 GND (power), 72 GNDPLL (power), 73 VDDPLL (power), 79 VDDUTMI (power), 82 GNDUTMI (power), 83 VDDCORE (power), 87 VDDCORE (power), 88 VDDIO (power), 89 GND (power)

## ATSAM3U4CA-CU
designator U?
AT91 ARM Cortex-M3 32-bit Microcontroller, 2x128KB Flash, 52KB SRAM, 57 User I/Os, 3USARTs, 100-Pin TFBGA, Industrial Grade (-40°C to 85°C), Pb-Free; Published: 20-Sep-2010; DatasheetVersion: revC, Apr-2010; PackageVersion: 2004; PackageReference: TFBGA100; Publisher: Altium Limited; PackageDescription: 100-Ball Thin Fine Ball Grid Array, 9 x 9 x1.1 mm Body, 0.80 mm Pitch; Supplier 1: Digi-Key; Supplier Part Number 1: ATSAM3U4CA-CU-ND; Supplier 2: Mouser; Supplier Part Number 2: 556-ATSAM3U4CA-CU; ComponentLink1Description: Manufacturer Link; ComponentLink1URL: http://www.atmel.com/products/AT91/default.asp?; ComponentLink2Description: SAM3U Series Datasheet; ComponentLink2URL: http://www.atmel.com/dyn/resources/prod_documents/doc6430.pdf; ComponentLink3Description: SAM3U Series Summary; ComponentLink3URL: http://www.atmel.com/dyn/resources/prod_documents/6430s.pdf; ComponentLink4Description: Atmel.com Home; ComponentLink4URL: http://www.atmel.com
footprint TFBGA100 (BGA, 100-Leads, Body 9x9mm, Pitch 0.8mm)
part A pins: A4 PB17 (io), A5 PB21 (io), A6 PB23 (io), B4 PB10 (io), B5 PB18 (io), B6 PB24 (io), C4 PB14 (io), C5 PB19 (io), C6 PB22 (io), D5 PB20 (io), D9 PA11/PGMD3 (io), D10 PA12/PGMD4 (io), E1 PA29 (io), E3 PA28 (io), E4 PB9 (io), E8 PA10/PGMD2 (io), E9 PA9/PGMD1 (io), E10 PA8/PGMD0 (io), F1 PB1 (io), F2 PB12 (io), F4 PA31 (io), F7 PB16 (io), F8 PA6/PGMM2 (io), F10 PA7/PGMM3 (io), G1 PB11 (io), G2 PB2 (io), G3 PB0 (io), G4 PB13 (io), G7 PB15 (io), G8 PA3/PGMNVALID (io), G9 PA5/PGMM1 (io), G10 PA4/PGMM0 (io), H2 PB5 (io), H3 PA27 (io), H4 PA22/PGMD14 (io), H5 PA13/PGMD5 (io), H6 PA15/PGMD7 (io), H7 PA18/PGMD10 (io), H8 PA24 (io), H9 PA1/PGMRDY (io), H10 PA2/PGMNOE (io), J1 PB6 (io), J2 PB8 (io), J4 PA30 (io), J5 PB3 (io), J6 PA16/PGMD8 (io), J7 PA19/PGMD11 (io), J8 PA21/PGMD13 (io), J9 PA26 (io), J10 PA0/PGMNCMD (io), K1 PB7 (io), K5 PB4 (io), K6 PA14/PGMD6 (io), K7 PA17/PGMD9 (io), K8 PA20/PGMD12 (io), K9 PA23/PGMD15 (io), K10 PA25 (io)
part B pins: A1 VBG, A2 XIN (in), A3 XOUT (out), A7 TCK/SWCLK (in), A8 VDDIN (power), A9 VDDOUT (power), A10 XIN32 (in), B7 NRST (io), B8 TDO/TRACESWO (out), B9 TDI (in), B10 XOUT32 (out), C1 DFSDP (io), C2 DHSDP (io), C7 TMS/SWDIO (in), C8 NRSTB (in), C9 JTAGSEL (in), D1 DFSDM (io), D2 DHSDM (io), D6 ERASE (in), D7 TST (in), D8 FWUP (in), J3 ADVREF (in), K4 AD12BVREF (in)
part C pins: B1 VDDCORE (power), B2 GNDUTMI (power), B3 VDDUTMI (power), C3 GNDPLL (power), C10 VDDBU (power), D3 VDDPLL (power), D4 VDDCORE (power), E2 GND (power), E5 GNDBU (power), E6 VDDIO (power), E7 VDDCORE (power), F3 VDDIO (power), F5 VDDIO (power), F6 GND (power), F9 VDDCORE (power), G5 VDDCORE (power), G6 GND (power), H1 VDDCORE (power), K2 VDDANA (power), K3 GNDANA (power)

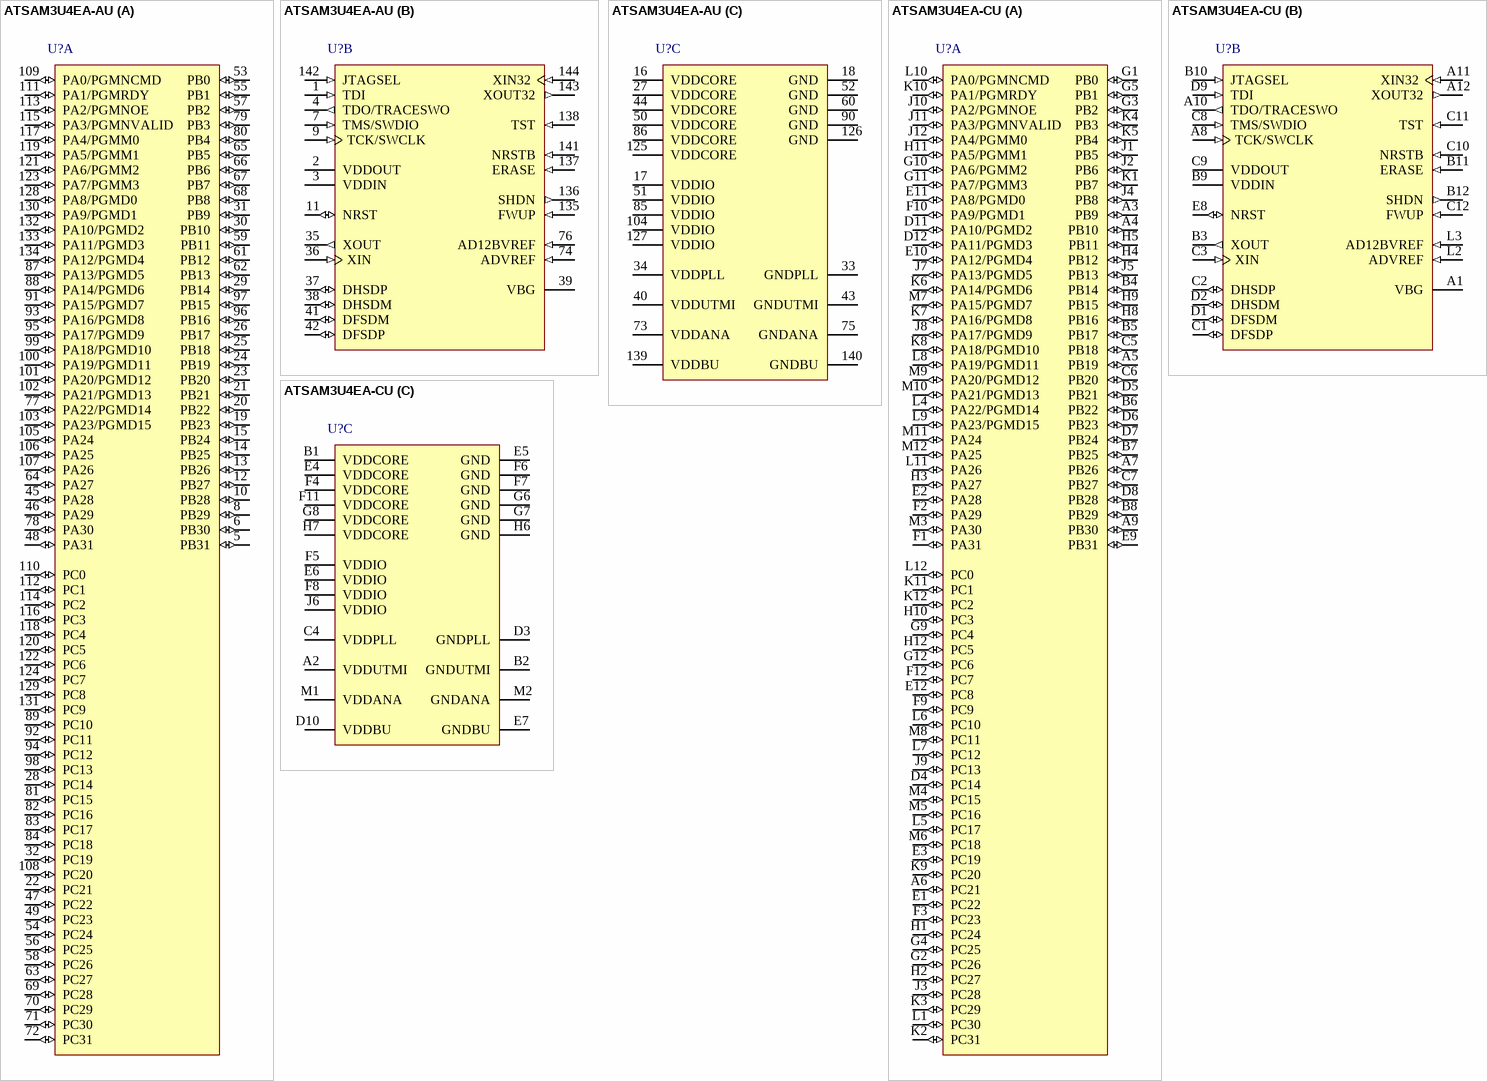
[diagram p52: symbols ATSAM3U4EA-AU to ATSAM3U4EA-CU]

## ATSAM3U4EA-AU
designator U?
AT91 ARM Cortex-M3 32-bit Microcontroller, 2x128KB Flash, 52KB SRAM, 96 User I/Os, 4USARTs, 144-Pin LQFP, Industrial Grade (-40°C to 85°C), Pb-Free; Published: 20-Sep-2010; DatasheetVersion: revC, Apr-2010; PackageVersion: rev.A, Nov-2001; PackageReference: 144L1; Publisher: Altium Limited; PackageDescription: 144-Pin Thin Quad Flat Pack 0.5 mm Pitch; Supplier 1: Digi-Key; Supplier Part Number 1: ATSAM3U4EA-AU-ND; Supplier 2: Mouser; Supplier Part Number 2: 556-ATSAM3U4EA-AU; Code_JEDEC: MS-026-BFB; ComponentLink1Description: Manufacturer Link; ComponentLink1URL: http://www.atmel.com/products/AT91/default.asp?; ComponentLink2Description: SAM3U Series Datasheet; ComponentLink2URL: http://www.atmel.com/dyn/resources/prod_documents/doc6430.pdf; ComponentLink3Description: SAM3U Series Summary; ComponentLink3URL: http://www.atmel.com/dyn/resources/prod_documents/6430s.pdf; ComponentLink4Description: Atmel.com Home; ComponentLink4URL: http://www.atmel.com
footprint 144L1_N (Thin QFP, 144-Leads, Body 20x20mm, Pitch 0.5mm, IPC Medium Density)
footprint 144L1_L (Thin QFP, 144-Leads, Body 20x20mm, Pitch 0.5mm, IPC High Density)
footprint 144L1_M (Thin QFP, 144-Leads, Body 20x20mm, Pitch 0.5mm, IPC Low Density)
part A pins: 5 PB31 (io), 6 PB30 (io), 8 PB29 (io), 10 PB28 (io), 12 PB27 (io), 13 PB26 (io), 14 PB25 (io), 15 PB24 (io), 19 PB23 (io), 20 PB22 (io), 21 PB21 (io), 22 PC21 (io), 23 PB20 (io), 24 PB19 (io), 25 PB18 (io), 26 PB17 (io), 28 PC14 (io), 29 PB14 (io), 30 PB10 (io), 31 PB9 (io), 32 PC19 (io), 45 PA28 (io), 46 PA29 (io), 47 PC22 (io), 48 PA31 (io), 49 PC23 (io), 53 PB0 (io), 54 PC24 (io), 55 PB1 (io), 56 PC25 (io), 57 PB2 (io), 58 PC26 (io), 59 PB11 (io), 61 PB12 (io), 62 PB13 (io), 63 PC27 (io), 64 PA27 (io), 65 PB5 (io), 66 PB6 (io), 67 PB7 (io), 68 PB8 (io), 69 PC28 (io), 70 PC29 (io), 71 PC30 (io), 72 PC31 (io), 77 PA22/PGMD14 (io), 78 PA30 (io), 79 PB3 (io), 80 PB4 (io), 81 PC15 (io), 82 PC16 (io), 83 PC17 (io), 84 PC18 (io), 87 PA13/PGMD5 (io), 88 PA14/PGMD6 (io), 89 PC10 (io), 91 PA15/PGMD7 (io), 92 PC11 (io), 93 PA16/PGMD8 (io), 94 PC12 (io), 95 PA17/PGMD9 (io), 96 PB16 (io), 97 PB15 (io), 98 PC13 (io), 99 PA18/PGMD10 (io), 100 PA19/PGMD11 (io), 101 PA20/PGMD12 (io), 102 PA21/PGMD13 (io), 103 PA23/PGMD15 (io), 105 PA24 (io), 106 PA25 (io), 107 PA26 (io), 108 PC20 (io), 109 PA0/PGMNCMD (io), 110 PC0 (io), 111 PA1/PGMRDY (io), 112 PC1 (io), 113 PA2/PGMNOE (io), 114 PC2 (io), 115 PA3/PGMNVALID (io), 116 PC3 (io), 117 PA4/PGMM0 (io), 118 PC4 (io), 119 PA5/PGMM1 (io), 120 PC5 (io), 121 PA6/PGMM2 (io), 122 PC6 (io), 123 PA7/PGMM3 (io), 124 PC7 (io), 128 PA8/PGMD0 (io), 129 PC8 (io), 130 PA9/PGMD1 (io), 131 PC9 (io), 132 PA10/PGMD2 (io), 133 PA11/PGMD3 (io), 134 PA12/PGMD4 (io)
part B pins: 1 TDI (in), 2 VDDOUT (power), 3 VDDIN (power), 4 TDO/TRACESWO (out), 7 TMS/SWDIO (in), 9 TCK/SWCLK (in), 11 NRST (io), 35 XOUT (out), 36 XIN (in), 37 DHSDP (io), 38 DHSDM (io), 39 VBG, 41 DFSDM (io), 42 DFSDP (io), 74 ADVREF (in), 76 AD12BVREF (in), 135 FWUP (in), 136 SHDN (out), 137 ERASE (in), 138 TST (in), 141 NRSTB (in), 142 JTAGSEL (in), 143 XOUT32 (out), 144 XIN32 (in)
part C pins: 16 VDDCORE (power), 17 VDDIO (power), 18 GND (power), 27 VDDCORE (power), 33 GNDPLL (power), 34 VDDPLL (power), 40 VDDUTMI (power), 43 GNDUTMI (power), 44 VDDCORE (power), 50 VDDCORE (power), 51 VDDIO (power), 52 GND (power), 60 GND (power), 73 VDDANA (power), 75 GNDANA (power), 85 VDDIO (power), 86 VDDCORE (power), 90 GND (power), 104 VDDIO (power), 125 VDDCORE (power), 126 GND (power), 127 VDDIO (power), 139 VDDBU (power), 140 GNDBU (power)

## ATSAM3U4EA-CU
designator U?
AT91 ARM Cortex-M3 32-bit Microcontroller, 2x128KB Flash, 52KB SRAM, 96 User I/Os, 4USARTs, 144-Pin LFBGA, Industrial Grade (-40°C to 85°C), Pb-Free; Published: 20-Sep-2010; DatasheetVersion: revC, Apr-2010; PackageVersion: 2008; PackageReference: LFBGA144; Publisher: Altium Limited; PackageDescription: 144-Ball Low Profile Fine Pitch BGA, 10 x 10 x 1.4 mm Body, 0.8 mm Pitch; Supplier 1: Digi-Key; Supplier Part Number 1: ATSAM3U4EA-CU-ND; Supplier 2: Mouser; Supplier Part Number 2: 556-ATSAM3U4EA-CU; Code_JEDEC: MS-026; ComponentLink1Description: Manufacturer Link; ComponentLink1URL: http://www.atmel.com/products/AT91/default.asp?; ComponentLink2Description: SAM3U Series Datasheet; ComponentLink2URL: http://www.atmel.com/dyn/resources/prod_documents/doc6430.pdf; ComponentLink3Description: SAM3U Series Summary; ComponentLink3URL: http://www.atmel.com/dyn/resources/prod_documents/6430s.pdf; ComponentLink4Description: Atmel.com Home; ComponentLink4URL: http://www.atmel.com
footprint LFBGA144 (BGA, 144-Leads, Body 10x10mm, Pitch 0.8mm)
part A pins: A3 PB9 (io), A4 PB10 (io), A5 PB19 (io), A6 PC21 (io), A7 PB26 (io), A9 PB30 (io), B4 PB14 (io), B5 PB17 (io), B6 PB22 (io), B7 PB25 (io), B8 PB29 (io), C5 PB18 (io), C6 PB20 (io), C7 PB27 (io), D4 PC14 (io), D5 PB21 (io), D6 PB23 (io), D7 PB24 (io), D8 PB28 (io), D11 PA10/PGMD2 (io), D12 PA11/PGMD3 (io), E1 PC22 (io), E2 PA28 (io), E3 PC19 (io), E9 PB31 (io), E10 PA12/PGMD4 (io), E11 PA8/PGMD0 (io), E12 PC8 (io), F1 PA31 (io), F2 PA29 (io), F3 PC23 (io), F9 PC9 (io), F10 PA9/PGMD1 (io), F12 PC7 (io), G1 PB0 (io), G2 PC26 (io), G3 PB2 (io), G4 PC25 (io), G5 PB1 (io), G9 PC4 (io), G10 PA6/PGMM2 (io), G11 PA7/PGMM3 (io), G12 PC6 (io), H1 PC24 (io), H2 PC27 (io), H3 PA27 (io), H4 PB12 (io), H5 PB11 (io), H8 PB16 (io), H9 PB15 (io), H10 PC3 (io), H11 PA5/PGMM1 (io), H12 PC5 (io), J1 PB5 (io), J2 PB6 (io), J3 PC28 (io), J4 PB8 (io), J5 PB13 (io), J7 PA13/PGMD5 (io), J8 PA17/PGMD9 (io), J9 PC13 (io), J10 PA2/PGMNOE (io), J11 PA3/PGMNVALID (io), J12 PA4/PGMM0 (io), K1 PB7 (io), K2 PC31 (io), K3 PC29 (io), K4 PB3 (io), K5 PB4 (io), K6 PA14/PGMD6 (io), K7 PA16/PGMD8 (io), K8 PA18/PGMD10 (io), K9 PC20 (io), K10 PA1/PGMRDY (io), K11 PC1 (io), K12 PC2 (io), L1 PC30 (io), L4 PA22/PGMD14 (io), L5 PC17 (io), L6 PC10 (io), L7 PC12 (io), L8 PA19/PGMD11 (io), L9 PA23/PGMD15 (io), L10 PA0/PGMNCMD (io), L11 PA26 (io), L12 PC0 (io), M3 PA30 (io), M4 PC15 (io), M5 PC16 (io), M6 PC18 (io), M7 PA15/PGMD7 (io), M8 PC11 (io), M9 PA20/PGMD12 (io), M10 PA21/PGMD13 (io), M11 PA24 (io), M12 PA25 (io)
part B pins: A1 VBG, A8 TCK/SWCLK (in), A10 TDO/TRACESWO (out), A11 XIN32 (in), A12 XOUT32 (out), B3 XOUT (out), B9 VDDIN (power), B10 JTAGSEL (in), B11 ERASE (in), B12 SHDN (out), C1 DFSDP (io), C2 DHSDP (io), C3 XIN (in), C8 TMS/SWDIO (in), C9 VDDOUT (power), C10 NRSTB (in), C11 TST (in), C12 FWUP (in), D1 DFSDM (io), D2 DHSDM (io), D9 TDI (in), E8 NRST (io), L2 ADVREF (in), L3 AD12BVREF (in)
part C pins: A2 VDDUTMI (power), B1 VDDCORE (power), B2 GNDUTMI (power), C4 VDDPLL (power), D3 GNDPLL (power), D10 VDDBU (power), E4 VDDCORE (power), E5 GND (power), E6 VDDIO (power), E7 GNDBU (power), F4 VDDCORE (power), F5 VDDIO (power), F6 GND (power), F7 GND (power), F8 VDDIO (power), F11 VDDCORE (power), G6 GND (power), G7 GND (power), G8 VDDCORE (power), H6 GND (power), H7 VDDCORE (power), J6 VDDIO (power), M1 VDDANA (power), M2 GNDANA (power)